# Altium footprint library Components - 03.07.24 - 08.04.PcbLib: 1 footprints
Each footprint in its own frame and in the unit in brackets; x right, y up, seen from the top. Pads: shape width x height; smd on the part's side, far side on the other; paste and mask are expansions set on the pad; w line width, h text height; cw(c..) or ccw(c..) is an arc to the next point about the centre after c.
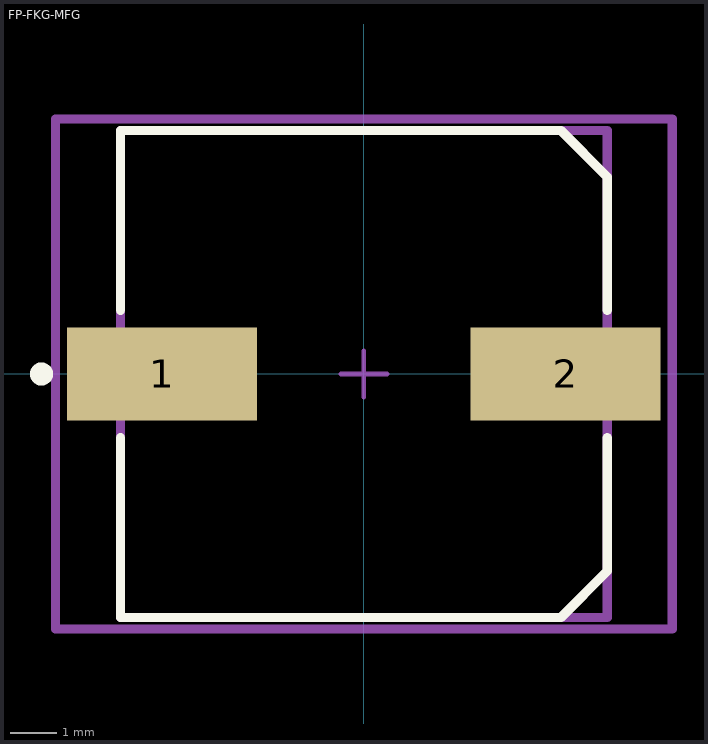
[diagram p0: the footprint, top view; thin cyan lines are the x and y axes]

## FP-FKG-MFG [mm]
pads (2):
  rect 4.1x2 smd paste+0 mask+0: 1(-4.35,0) 2(4.35,0)
Top Overlay:
  circle w0.25: c-6.95,0 r0.125
  lines w0.2: -5.25,-1.375 -5.25,-5.25 4.25,-5.25 5.25,-4.25 5.25,-1.375 ; -5.25,1.375 -5.25,5.25 4.25,5.25 5.25,4.25 5.25,1.375
Mechanical 5:
  lines w0.2: -6.65,-5.5 6.65,-5.5 6.65,5.5 -6.65,5.5 -6.65,-5.5
  text ".Designator" at 0,0.187 h1
Mechanical 13:
  lines w0.2: -5.25,-5.25 5.25,-5.25 5.25,5.25 -5.25,5.25 -5.25,-5.25
Mechanical 15:
  lines w0.2: -6.65,-5.5 6.65,-5.5 6.65,5.5 -6.65,5.5 -6.65,-5.5
Mechanical 16:
  lines w0.1: -0.5,0 0.5,0 ; 0,-0.5 0,0.5
3D body "Cap_Panasonic_EEEFK1J101P_eec.STEP": height 0.25, standoff 0, extent -6.65,-5.5 6.65,5.5